# EAGLE library part BLUETOOTH-RF-BM-S02 (library p.peter-periphery)
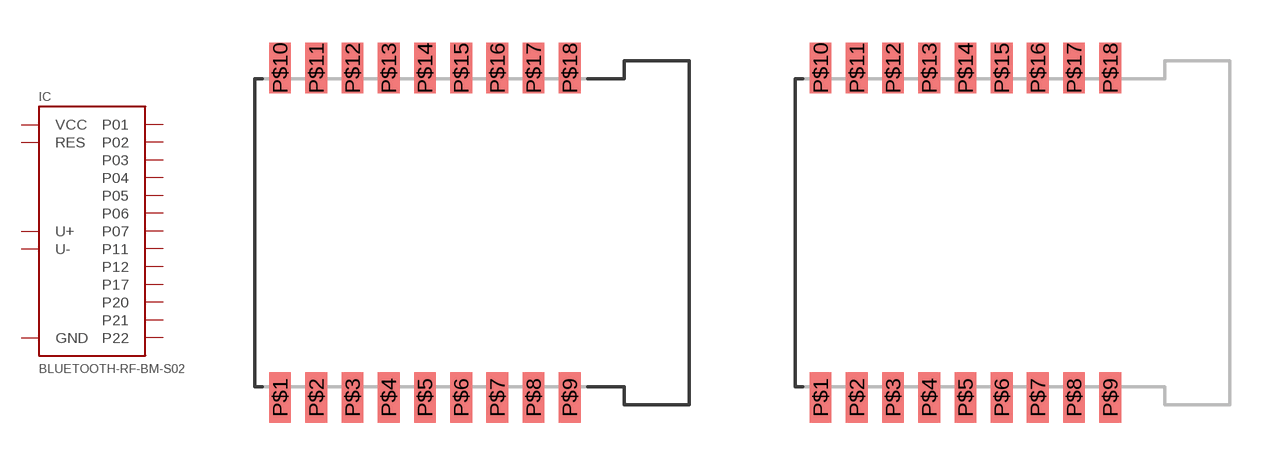
[diagram p12: symbol with the pads of BLUETOOTH-RF-BM-S02-SMD; footprints BLUETOOTH-RF-BM-S02-SMD, BLUETOOTH-RF-BM-S02-SMD-NOSILK]

Designator prefix IC

## BLUETOOTH-RF-BM-S02-SMD  [BLUETOOTH-RF-BM-S02-SMD]
P$1  P12
P$2  P11
P$3  P07
P$4  P06
P$5  P05
P$6  P04
P$7  P03
P$8  P02
P$9  P01
P$10  U-
P$11  U+
P$12  P17
P$13  P20
P$14  RES
P$15  P21
P$16  P22
P$17  VCC
P$18  GND

## BLUETOOTH-RF-BM-S02-SMD-NOSILK  [BLUETOOTH-RF-BM-S02-SMD-NOSILK]
Pads as for BLUETOOTH-RF-BM-S02-SMD

## Footprint BLUETOOTH-RF-BM-S02-SMD (pad centres in mm)
smd 0.762 x 1.778: P$1 -5.08,-5.779; P$2 -3.81,-5.779; P$3 -2.54,-5.779; P$4 -1.27,-5.779; P$5 0,-5.779; P$6 1.27,-5.779; P$7 2.54,-5.779; P$8 3.81,-5.779; P$9 5.08,-5.779; P$10 -5.08,5.779; P$11 -3.81,5.779; P$12 -2.54,5.779; P$13 -1.27,5.779; P$14 0,5.779; P$15 1.27,5.779; P$16 2.54,5.779; P$17 3.81,5.779; P$18 5.08,5.779

## Footprint BLUETOOTH-RF-BM-S02-SMD-NOSILK (pad centres in mm)
smd 0.762 x 1.778: P$1 -5.08,-5.779; P$2 -3.81,-5.779; P$3 -2.54,-5.779; P$4 -1.27,-5.779; P$5 0,-5.779; P$6 1.27,-5.779; P$7 2.54,-5.779; P$8 3.81,-5.779; P$9 5.08,-5.779; P$10 -5.08,5.779; P$11 -3.81,5.779; P$12 -2.54,5.779; P$13 -1.27,5.779; P$14 0,5.779; P$15 1.27,5.779; P$16 2.54,5.779; P$17 3.81,5.779; P$18 5.08,5.779